# Altium integrated library WE-TDC_rev15a (1).intlib: 26 symbols
Pins are listed as number, name and electrical type; pins without a type are passive.

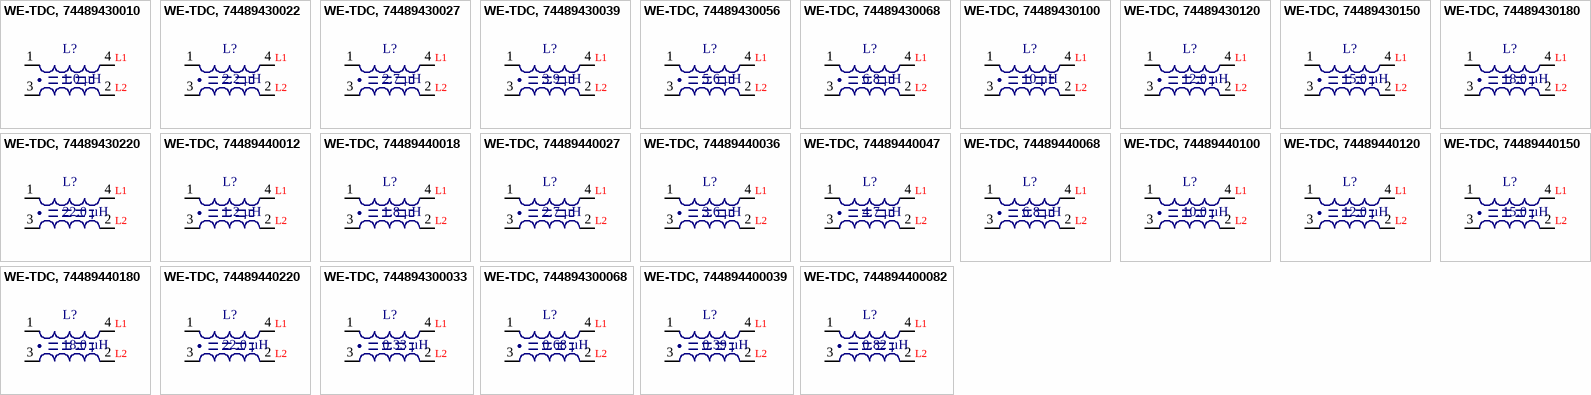
[diagram p0: symbols WE-TDC, 74489430010 to WE-TDC, 744894400082]

## WE-TDC, 74489430010
designator L?, comment 1.0 µH
SMD Shielded Coupled Inductor WE-TDC, L=1.0 µH; PartNo: 74489430010; Manufacturer: Würth Elektronik eiSos GmbH; Inductance: 1.0 µH; ComponentLink1Description: Manufacturer; ComponentLink1URL: http://www.we-online.de; Created by: Christin Zierenner; Created Date: Jan 2013; ComponentLink2Description: Datasheet; ComponentLink2URL: http://katalog.we-online.de/pbs/datasheet/74489430010.pdf
footprint WE-TDC 8018 (SMD Inductor, 4-Leads, Body 8.0x8.0mm)
pins: 1, 2, 3, 4
text: L1; L2

## WE-TDC, 74489430022
designator L?, comment 2.2 µH
SMD Shielded Coupled Inductor WE-TDC, L=2.2 µH; PartNo: 74489430022; Manufacturer: Würth Elektronik eiSos GmbH; Inductance: 2.2 µH; ComponentLink1Description: Manufacturer; ComponentLink1URL: http://www.we-online.de; Created by: Christin Zierenner; Created Date: Jan 2013; ComponentLink2Description: Datasheet; ComponentLink2URL: http://katalog.we-online.de/pbs/datasheet/74489430022.pdf
footprint WE-TDC 8018 (SMD Inductor, 4-Leads, Body 8.0x8.0mm)
pins: 1, 2, 3, 4
text: L1; L2

## WE-TDC, 74489430027
designator L?, comment 2.7 µH
SMD Shielded Coupled Inductor WE-TDC, L=2.7 µH; PartNo: 74489430027; Manufacturer: Würth Elektronik eiSos GmbH; Inductance: 2.7 µH; ComponentLink1Description: Manufacturer; ComponentLink1URL: http://www.we-online.de; Created by: Christin Zierenner; Created Date: Jan 2013; ComponentLink2Description: Datasheet; ComponentLink2URL: http://katalog.we-online.de/pbs/datasheet/74489430027.pdf
footprint WE-TDC 8018 (SMD Inductor, 4-Leads, Body 8.0x8.0mm)
pins: 1, 2, 3, 4
text: L1; L2

## WE-TDC, 74489430039
designator L?, comment 3.9 µH
SMD Shielded Coupled Inductor WE-TDC, L=3.9 µH; PartNo: 74489430039; Manufacturer: Würth Elektronik eiSos GmbH; Inductance: 3.9 µH; ComponentLink1Description: Manufacturer; ComponentLink1URL: http://www.we-online.de; Created by: Christin Zierenner; Created Date: Jan 2013; ComponentLink2Description: Datasheet; ComponentLink2URL: http://katalog.we-online.de/pbs/datasheet/74489430039.pdf
footprint WE-TDC 8018 (SMD Inductor, 4-Leads, Body 8.0x8.0mm)
pins: 1, 2, 3, 4
text: L1; L2

## WE-TDC, 74489430056
designator L?, comment 5.6 µH
SMD Shielded Coupled Inductor WE-TDC, L=5.6 µH; partNo: 74489430056; Manufacturer: Würth Elektronik eiSos GmbH; Inductance: 5.6 µH; ComponentLink1Description: Manufacturer; ComponentLink1URL: http://www.we-online.de; Created by: Christin Zierenner; Created Date: Jan 2013; ComponentLink2Description: Datasheet; ComponentLink2URL: http://katalog.we-online.de/pbs/datasheet/74489430056.pdf
footprint WE-TDC 8018 (SMD Inductor, 4-Leads, Body 8.0x8.0mm)
pins: 1, 2, 3, 4
text: L1; L2

## WE-TDC, 74489430068
designator L?, comment 6.8 µH
SMD Shielded Coupled Inductor WE-TDC, L=6.8 µH; partNo: 74489430068; Manufacturer: Würth Elektronik eiSos GmbH; Inductance: 6.8 µH; ComponentLink1Description: Manufacturer; ComponentLink1URL: http://www.we-online.de; Created by: Christin Zierenner; Created Date: Jan 2013; ComponentLink2Description: Datasheet; ComponentLink2URL: http://katalog.we-online.de/pbs/datasheet/74489430068.pdf
footprint WE-TDC 8018 (SMD Inductor, 4-Leads, Body 8.0x8.0mm)
pins: 1, 2, 3, 4
text: L1; L2

## WE-TDC, 74489430100
designator L?, comment 10 µH
SMD Shielded Coupled Inductor WE-TDC, L=10 µH; partNo: 74489430100; Manufacturer: Würth Elektronik eiSos GmbH; Inductance: 10 µH; ComponentLink1Description: Manufacturer; ComponentLink1URL: http://www.we-online.de; Created by: Christin Zierenner; Created Date: Jan 2013; ComponentLink2Description: Datasheet; ComponentLink2URL: http://katalog.we-online.de/pbs/datasheet/74489430100.pdf
footprint WE-TDC 8018 (SMD Inductor, 4-Leads, Body 8.0x8.0mm)
pins: 1, 2, 3, 4
text: L1; L2

## WE-TDC, 74489430120
designator L?, comment 12.0 µH
SMD Shielded Coupled Inductor WE-TDC, L=12.0 µH; partNo: 74489430120; Manufacturer: Würth Elektronik eiSos GmbH; Inductance: 12.0 µH; ComponentLink1Description: Manufacturer; ComponentLink1URL: http://www.we-online.de; Created by: Christin Zierenner; Created Date: Jan 2013; ComponentLink2Description: Datasheet; ComponentLink2URL: http://katalog.we-online.de/pbs/datasheet/74489430120.pdf
footprint WE-TDC 8018 (SMD Inductor, 4-Leads, Body 8.0x8.0mm)
pins: 1, 2, 3, 4
text: L1; L2

## WE-TDC, 74489430150
designator L?, comment 15.0 µH
SMD Shielded Coupled Inductor WE-TDC, L=15.0 µH; partNo: 74489430150; Manufacturer: Würth Elektronik eiSos GmbH; Inductance: 15.0 µH; ComponentLink1Description: Manufacturer; ComponentLink1URL: http://www.we-online.de; Created by: Christin Zierenner; Created Date: Jan 2013; ComponentLink2Description: Datasheet; ComponentLink2URL: http://katalog.we-online.de/pbs/datasheet/74489430150.pdf
footprint WE-TDC 8018 (SMD Inductor, 4-Leads, Body 8.0x8.0mm)
pins: 1, 2, 3, 4
text: L1; L2

## WE-TDC, 74489430180
designator L?, comment 18.0 µH
SMD Shielded Coupled Inductor WE-TDC, L=18.0 µH; partNo: 74489430180; Manufacturer: Würth Elektronik eiSos GmbH; Inductance: 18.0 µH; ComponentLink1Description: Manufacturer; ComponentLink1URL: http://www.we-online.de; Created by: Christin Zierenner; Created Date: Jan 2013; ComponentLink2Description: Datasheet; ComponentLink2URL: http://katalog.we-online.de/pbs/datasheet/74489430180.pdf
footprint WE-TDC 8018 (SMD Inductor, 4-Leads, Body 8.0x8.0mm)
pins: 1, 2, 3, 4
text: L1; L2

## WE-TDC, 74489430220
designator L?, comment 22.0 µH
SMD Shielded Coupled Inductor WE-TDC, L=22.0 µH; partNo: 74489430220; Manufacturer: Würth Elektronik eiSos GmbH; Inductance: 22.0 µH; ComponentLink1Description: Manufacturer; ComponentLink1URL: http://www.we-online.de; Created by: Christin Zierenner; Created Date: Jan 2013; ComponentLink2Description: Datasheet; ComponentLink2URL: http://katalog.we-online.de/pbs/datasheet/74489430220.pdf
footprint WE-TDC 8018 (SMD Inductor, 4-Leads, Body 8.0x8.0mm)
pins: 1, 2, 3, 4
text: L1; L2

## WE-TDC, 74489440012
designator L?, comment 1.2 µH
SMD Shielded Coupled Inductor WE-TDC, L=1.2 µH; partNo: 74489440012; Manufacturer: Würth Elektronik eiSos GmbH; Inductance: 1.2 µH; ComponentLink1Description: Manufacturer; ComponentLink1URL: http://www.we-online.de; Created by: Christin Zierenner; Created Date: Jan 2013; ComponentLink2Description: Datasheet; ComponentLink2URL: http://katalog.we-online.de/pbs/datasheet/74489440012.pdf
footprint WE-TDC 8038 (SMD Inductor, 4-Leads, Body 8.0x8.0mm)
pins: 1, 2, 3, 4
text: L1; L2

## WE-TDC, 74489440018
designator L?, comment 1.8 µH
SMD Shielded Coupled Inductor WE-TDC, L=1.8 µH; partNo: 74489440018; Manufacturer: Würth Elektronik eiSos GmbH; Inductance: 1.8 µH; ComponentLink1Description: Manufacturer; ComponentLink1URL: http://www.we-online.de; Created by: Christin Zierenner; Created Date: Jan 2013; ComponentLink2Description: Datasheet; ComponentLink2URL: http://katalog.we-online.de/pbs/datasheet/74489440018.pdf
footprint WE-TDC 8038 (SMD Inductor, 4-Leads, Body 8.0x8.0mm)
pins: 1, 2, 3, 4
text: L1; L2

## WE-TDC, 74489440027
designator L?, comment 2.7 µH
SMD Shielded Coupled Inductor WE-TDC, L=2.7 µH; partNo: 74489440027; Manufacturer: Würth Elektronik eiSos GmbH; Inductance: 2.7 µH; ComponentLink1Description: Manufacturer; ComponentLink1URL: http://www.we-online.de; Created by: Christin Zierenner; Created Date: Jan 2013; ComponentLink2Description: Datasheet; ComponentLink2URL: http://katalog.we-online.de/pbs/datasheet/74489440027.pdf
footprint WE-TDC 8038 (SMD Inductor, 4-Leads, Body 8.0x8.0mm)
pins: 1, 2, 3, 4
text: L1; L2

## WE-TDC, 74489440036
designator L?, comment 3.6 µH
SMD Shielded Coupled Inductor WE-TDC, L=3.6 µH; partNo: 74489440036; Manufacturer: Würth Elektronik eiSos GmbH; Inductance: 3.6 µH; ComponentLink1Description: Manufacturer; ComponentLink1URL: http://www.we-online.de; Created by: Christin Zierenner; Created Date: Jan 2013; ComponentLink2Description: Datasheet; ComponentLink2URL: http://katalog.we-online.de/pbs/datasheet/74489440036.pdf
footprint WE-TDC 8038 (SMD Inductor, 4-Leads, Body 8.0x8.0mm)
pins: 1, 2, 3, 4
text: L1; L2

## WE-TDC, 74489440047
designator L?, comment 4.7 µH
SMD Shielded Coupled Inductor WE-TDC, L=4.7 µH; partNo: 74489440047; Manufacturer: Würth Elektronik eiSos GmbH; Inductance: 4.7 µH; ComponentLink1Description: Manufacturer; ComponentLink1URL: http://www.we-online.de; Created by: Christin Zierenner; Created Date: Jan 2013; ComponentLink2Description: Datasheet; ComponentLink2URL: http://katalog.we-online.de/pbs/datasheet/74489440047.pdf
footprint WE-TDC 8038 (SMD Inductor, 4-Leads, Body 8.0x8.0mm)
pins: 1, 2, 3, 4
text: L1; L2

## WE-TDC, 74489440068
designator L?, comment 6.8 µH
SMD Shielded Coupled Inductor WE-TDC, L=6.8 µH; partNo: 74489440068; Manufacturer: Würth Elektronik eiSos GmbH; Inductance: 6.8 µH; ComponentLink1Description: Manufacturer; ComponentLink1URL: http://www.we-online.de; Created by: Christin Zierenner; Created Date: Jan 2013; ComponentLink2Description: Datasheet; ComponentLink2URL: http://katalog.we-online.de/pbs/datasheet/74489440068.pdf
footprint WE-TDC 8038 (SMD Inductor, 4-Leads, Body 8.0x8.0mm)
pins: 1, 2, 3, 4
text: L1; L2

## WE-TDC, 74489440100
designator L?, comment 10.0 µH
SMD Shielded Coupled Inductor WE-TDC, L=10.0 µH; partNo: 74489440100; Manufacturer: Würth Elektronik eiSos GmbH; Inductance: 10.0 µH; ComponentLink1Description: Manufacturer; ComponentLink1URL: http://www.we-online.de; Created by: Christin Zierenner; Created Date: Jan 2013; ComponentLink2Description: Datasheet; ComponentLink2URL: http://katalog.we-online.de/pbs/datasheet/74489440100.pdf
footprint WE-TDC 8038 (SMD Inductor, 4-Leads, Body 8.0x8.0mm)
pins: 1, 2, 3, 4
text: L1; L2

## WE-TDC, 74489440120
designator L?, comment 12.0 µH
SMD Shielded Coupled Inductor WE-TDC, L=12.0 µH; partNo: 74489440120; Manufacturer: Würth Elektronik eiSos GmbH; Inductance: 12.0 µH; ComponentLink1Description: Manufacturer; ComponentLink1URL: http://www.we-online.de; Created by: Christin Zierenner; Created Date: Jan 2013; ComponentLink2Description: Datasheet; ComponentLink2URL: http://katalog.we-online.de/pbs/datasheet/74489440120.pdf
footprint WE-TDC 8038 (SMD Inductor, 4-Leads, Body 8.0x8.0mm)
pins: 1, 2, 3, 4
text: L1; L2

## WE-TDC, 74489440150
designator L?, comment 15.0 µH
SMD Shielded Coupled Inductor WE-TDC, L=15.0 µH; partNo: 74489440150; Manufacturer: Würth Elektronik eiSos GmbH; Inductance: 15.0 µH; ComponentLink1Description: Manufacturer; ComponentLink1URL: http://www.we-online.de; Created by: Christin Zierenner; Created Date: Jan 2013; ComponentLink2Description: Datasheet; ComponentLink2URL: http://katalog.we-online.de/pbs/datasheet/74489440150.pdf
footprint WE-TDC 8038 (SMD Inductor, 4-Leads, Body 8.0x8.0mm)
pins: 1, 2, 3, 4
text: L1; L2

## WE-TDC, 74489440180
designator L?, comment 18.0 µH
SMD Shielded Coupled Inductor WE-TDC, L=18.0 µH; partNo: 74489440180; Manufacturer: Würth Elektronik eiSos GmbH; Inductance: 18.0 µH; ComponentLink1Description: Manufacturer; ComponentLink1URL: http://www.we-online.de; Created by: Christin Zierenner; Created Date: Jan 2013; ComponentLink2Description: Datasheet; ComponentLink2URL: http://katalog.we-online.de/pbs/datasheet/74489440180.pdf
footprint WE-TDC 8038 (SMD Inductor, 4-Leads, Body 8.0x8.0mm)
pins: 1, 2, 3, 4
text: L1; L2

## WE-TDC, 74489440220
designator L?, comment 22.0 µH
SMD Shielded Coupled Inductor WE-TDC, L=22.0 µH; partNo: 74489440220; Manufacturer: Würth Elektronik eiSos GmbH; Inductance: 22.0 µH; ComponentLink1Description: Manufacturer; ComponentLink1URL: http://www.we-online.de; Created by: Christin Zierenner; Created Date: Jan 2013; ComponentLink2Description: Datasheet; ComponentLink2URL: http://katalog.we-online.de/pbs/datasheet/74489440220.pdf
footprint WE-TDC 8038 (SMD Inductor, 4-Leads, Body 8.0x8.0mm)
pins: 1, 2, 3, 4
text: L1; L2

## WE-TDC, 744894300033
designator L?, comment 0.33 µH
SMD Shielded Coupled Inductor WE-TDC, L=0.33 µH; partNo: 744894300033; Manufacturer: Würth Elektronik eiSos GmbH; Inductance: 0.33 µH; ComponentLink1Description: Manufacturer; ComponentLink1URL: http://www.we-online.de; Created by: Christin Zierenner; Created Date: Jan 2013; ComponentLink2Description: Datasheet; ComponentLink2URL: http://katalog.we-online.de/pbs/datasheet/744894300033.pdf
footprint WE-TDC 8018 (SMD Inductor, 4-Leads, Body 8.0x8.0mm)
pins: 1, 2, 3, 4
text: L1; L2

## WE-TDC, 744894300068
designator L?, comment 0.68 µH
SMD Shielded Coupled Inductor WE-TDC, L=0.68 µH; partNo: 744894300068; Manufacturer: Würth Elektronik eiSos GmbH; Inductance: 0.68 µH; ComponentLink1Description: Manufacturer; ComponentLink1URL: http://www.we-online.de; Created by: Christin Zierenner; Created Date: Jan 2013; ComponentLink2Description: Datasheet; ComponentLink2URL: http://katalog.we-online.de/pbs/datasheet/744894300068.pdf
footprint WE-TDC 8018 (SMD Inductor, 4-Leads, Body 8.0x8.0mm)
pins: 1, 2, 3, 4
text: L1; L2

## WE-TDC, 744894400039
designator L?, comment 0.39 µH
SMD Shielded Coupled Inductor WE-TDC, L=0.39 µH; partNo: 744894400039; Manufacturer: Würth Elektronik eiSos GmbH; Inductance: 0.39 µH; ComponentLink1Description: Manufacturer; ComponentLink1URL: http://www.we-online.de; Created by: Christin Zierenner; Created Date: Jan 2013; ComponentLink2Description: Datasheet; ComponentLink2URL: http://katalog.we-online.de/pbs/datasheet/744894400039.pdf
footprint WE-TDC 8038 (SMD Inductor, 4-Leads, Body 8.0x8.0mm)
pins: 1, 2, 3, 4
text: L1; L2

## WE-TDC, 744894400082
designator L?, comment 0.82 µH
SMD Shielded Coupled Inductor WE-TDC, L=0.82 µH; partNo: 744894400082; Manufacturer: Würth Elektronik eiSos GmbH; Inductance: 0.82 µH; ComponentLink1Description: Manufacturer; ComponentLink1URL: http://www.we-online.de; Created by: Christin Zierenner; Created Date: Jan 2013; ComponentLink2Description: Datasheet; ComponentLink2URL: http://katalog.we-online.de/pbs/datasheet/744894400082.pdf
footprint WE-TDC 8038 (SMD Inductor, 4-Leads, Body 8.0x8.0mm)
pins: 1, 2, 3, 4
text: L1; L2